# Altium footprint library FlexControl.PcbLib: 13 footprints
Each footprint in its own frame and in the unit in brackets; x right, y up, seen from the top. Pads: shape width x height; smd on the part's side, far side on the other; paste and mask are expansions set on the pad; w line width, h text height; cw(c..) or ccw(c..) is an arc to the next point about the centre after c.
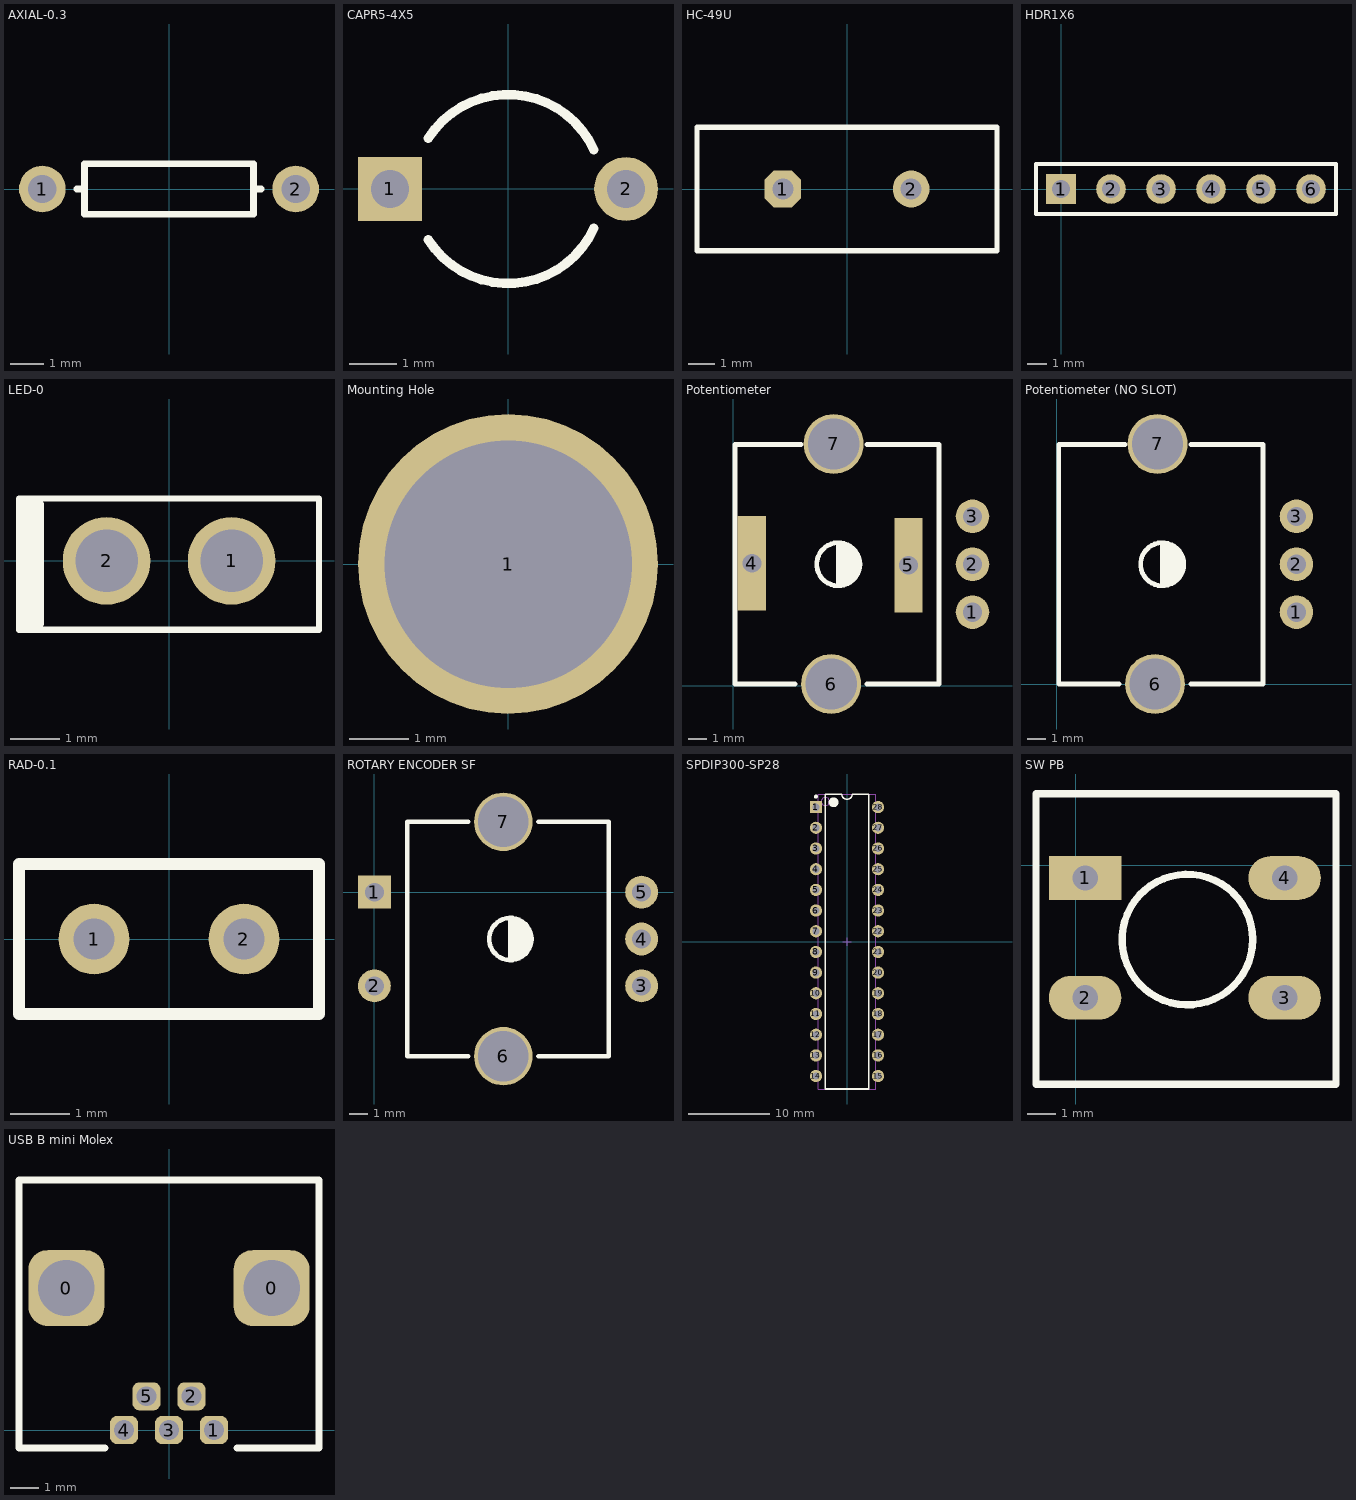
[diagram p0: the footprints below, top view; thin cyan lines are the x and y axes]

## AXIAL-0.3 [mm]
pads (2):
  round 1.4 hole 0.85: 1(-3.81,0) 2(3.81,0)
Top Overlay:
  lines w0.2: -2.769,0 -2.54,0 ; 2.769,0 2.54,0 ; 2.54,0 2.54,0.762 -2.54,0.762 -2.54,-0.762 2.54,-0.762 2.54,0

## CAPR5-4X5 [mm]
pads (2):
  rect 1.35x1.35 hole 0.8: 1(-2.5,0)
  round 1.35 hole 0.8: 2(2.5,0)
Top Overlay:
  lines w0.2: -1.687,-1.075 ccw(c0,0) 1.819,-0.832 ; -1.687,1.075 cw(c0,0) 1.819,0.832

## HC-49U [mm]
pads (2):
  oct 1.4x1.4 hole 0.8: 1(-2.44,0)
  round 1.4 hole 0.8: 2(2.44,0)
Top Overlay:
  lines w0.2: -5.7,-2.35 5.7,-2.35 5.7,2.35 -5.7,2.35 -5.7,-2.35

## HDR1X6 [mm]
pads (6):
  rect 1.5x1.5 hole 0.9: 1(0,0)
  round 1.5 hole 0.9: 2(2.54,0) 3(5.08,0) 4(7.62,0) 5(10.16,0) 6(12.7,0)
Top Overlay:
  lines w0.2: -1.27,-1.27 13.97,-1.27 13.97,1.27 -1.27,1.27 -1.27,-1.27

## LED-0 [mil]
pads (2):
  round 70 hole 50: 1(50,0) 2(-50,0)
Top Overlay:
  lines w5: -120,-55 120,-55 120,50 -120,50 -120,-55
  lines w10: -115,-50 -105,-50 -105,45 -115,45 -115,-50

## Mounting Hole [mil]
pads (1):
  round 200 hole 165: 1(0,0)

## Potentiometer [mm]
height 0.7
pads (7):
  round 1.778 hole 1.016: 1(12.693,3.91) 2(12.693,6.45) 3(12.693,8.99)
  rect 1.5x5 hole 1 square: 4(1,6.5) 5(9.3,6.4)
  round 3.175 hole 2.718: 6(5.2,0.1) 7(5.334,12.827)
Top Overlay:
  circle w0.254: c5.581,6.45 r1.143
  lines w0.254: 3.295,0.1 0.1,0.1 0.1,12.8 3.6,12.8 ; 5.581,7.593 5.581,5.307 5.835,5.434 5.835,7.466 6.089,7.339 6.089,5.434 6.343,5.688 6.343,7.212 6.47,6.831 6.47,5.942 ; 7.105,0.1 10.915,0.1 10.915,12.8 7.105,12.8

## Potentiometer (NO SLOT) [mil]
pads (5):
  round 70 hole 40: 1(499.72,150) 2(499.72,250) 3(499.72,350)
  round 125 hole 107: 6(204.72,0) 7(210,501.06)
Top Overlay:
  circle w10: c219.72,250 r45
  lines w10: 129.72,0 3.94,0 3.94,500 141.73,500 ; 219.72,295 219.72,205 229.72,210 229.72,290 239.72,285 239.72,210 249.72,220 249.72,280 254.72,265 254.72,230 ; 279.72,0 429.72,0 429.72,500 279.72,500

## RAD-0.1 [mm]
pads (2):
  round 1.2 hole 0.7: 1(-1.27,0) 2(1.27,0)
Top Overlay:
  lines w0.2: -2.54,-1.27 -2.54,1.27 2.54,1.27 2.54,-1.27 -2.54,-1.27

## ROTARY ENCODER SF [mil]
pads (7):
  rect 70x70 hole 40: 1(0,0)
  round 70 hole 40: 2(0,-200) 3(570,-200) 4(570,-100) 5(570,0)
  round 125 hole 107: 6(275,-350) 7(275,150)
Top Overlay:
  circle w10: c290,-100 r45
  lines w10: 200,-350 70,-350 70,150 200,150 ; 290,-55 290,-145 300,-140 300,-60 310,-65 310,-140 320,-130 320,-70 325,-85 325,-120 ; 350,-350 500,-350 500,150 350,150

## SPDIP300-SP28 [mm]
pads (28):
  rect 1.5x1.5 hole 0.9: 1(-3.81,16.51)
  round 1.5 hole 0.9: 2(-3.81,13.97) 3(-3.81,11.43) 4(-3.81,8.89) 5(-3.81,6.35) 6(-3.81,3.81) 7(-3.81,1.27) 8(-3.81,-1.27) 9(-3.81,-3.81) 10(-3.81,-6.35) 11(-3.81,-8.89) 12(-3.81,-11.43) 13(-3.81,-13.97) 14(-3.81,-16.51) 15(3.81,-16.51) 16(3.81,-13.97) 17(3.81,-11.43) 18(3.81,-8.89) 19(3.81,-6.35) 20(3.81,-3.81) 21(3.81,-1.27) 22(3.81,1.27) 23(3.81,3.81) 24(3.81,6.35) 25(3.81,8.89) 26(3.81,11.43) 27(3.81,13.97) 28(3.81,16.51)
Top Overlay:
  circle w0.6: c-1.65,17.1 r0.3
  circle w0.25: c-3.81,17.81 r0.125
  lines w0.2: -2.65,-18.1 2.65,-18.1 2.65,18.1 0.635,18.1 cw(c0,18.1) -0.635,18.1 -2.65,18.1 -2.65,-18.1
Mechanical 13:
  circle w0.1: c-2.65,17.2 r0.5
  lines w0.1: -3.55,-18.1 3.55,-18.1 3.55,18.1 -3.55,18.1 -3.55,-18.1
Mechanical 15:
  lines w0.1: -0.5,0 0.5,0 ; 0,-0.5 0,0.5
3D body: height 5.08, standoff 0, extent -3.55,-18.1 3.55,18.1

## SW PB [mil]
pads (4):
  rect 100x60 hole 35: 1(12.5,-17.5)
  oval 100x60 hole 35: 2(12.5,-182.5) 3(287.5,-182.5) 4(287.5,-17.5)
Top Overlay:
  circle w10: c153.54,-102.36 r90
  lines w10: -55.12,-301.57 -55.12,98.43 358.27,98.43 358.27,-301.57 -55.12,-301.57

## USB B mini Molex [mm]
pads (7):
  rrect50% 2.7x2.7 hole 2: 0(-3.65,5.05) 0(3.65,5.05)
  rrect50% 1x1 hole 0.7: 1(1.6,0) 2(0.8,1.2) 3(0,0) 4(-1.6,0) 5(-0.8,1.2)
Top Overlay:
  lines w0.254: -2.286,-0.635 -5.334,-0.635 -5.334,5.08 -5.334,8.89 5.334,8.89 5.334,-0.635 2.413,-0.635